# EAGLE library part MCP41XXX (library JH)
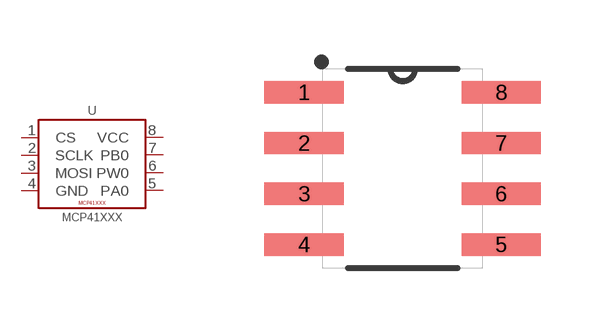
[diagram p2: symbol with the pads of SOIC-8; footprint SOIC-8]

Designator prefix -

## MCP41XXX  [SOIC-8]
1  CS  in
2  SCLK  in
3  MOSI  in
4  GND  pwr
5  PA0
6  PW0
7  PB0
8  VCC  pwr

## Footprint SOIC-8 (pad centres in mm)
smd 1.981 x 0.559: 1 -2.464,1.905; 2 -2.464,0.635; 3 -2.464,-0.635; 4 -2.464,-1.905; 5 2.464,-1.905; 6 2.464,-0.635; 7 2.464,0.635; 8 2.464,1.905